# EAGLE library part ESP03 (library RemoteHome)
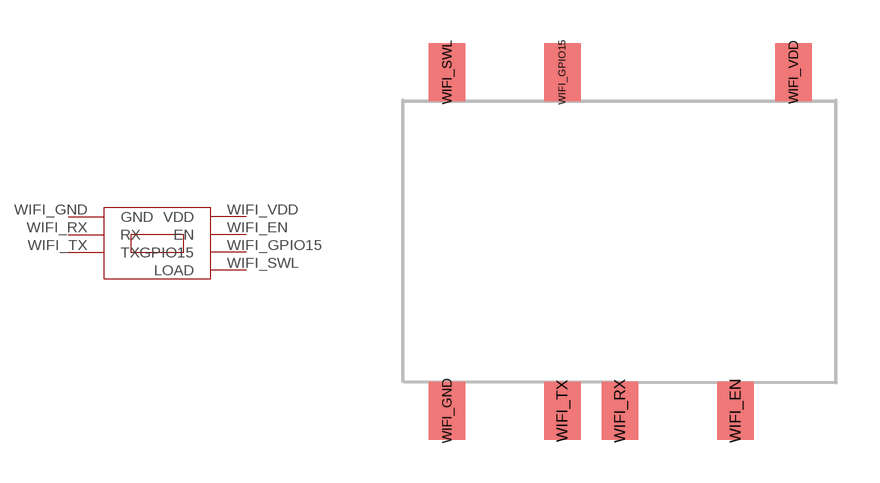
[diagram p3: symbol with the pads of ESP03; footprint ESP03]

Designator prefix -

## ESP03  [ESP03]
WIFI_EN  EN  in
WIFI_GND  GND  pwr
WIFI_GPIO15  GPIO15  in
WIFI_RX  RX  in
WIFI_SWL  LOAD  in
WIFI_TX  TX  out
WIFI_VDD  VDD  pwr

## Footprint ESP03 (pad centres in mm)
smd 1.27 x 2: WIFI_EN 3.27,-6; WIFI_GND -6.73,-6; WIFI_GPIO15 -2.73,5.73; WIFI_RX -0.73,-6; WIFI_SWL -6.73,5.73; WIFI_TX -2.73,-6; WIFI_VDD 5.27,5.73